# Altium schematic symbol library 2017-07-30_02-04-41.SchLib: 21 symbols
Pins are listed as number, name and electrical type; pins without a type are passive.

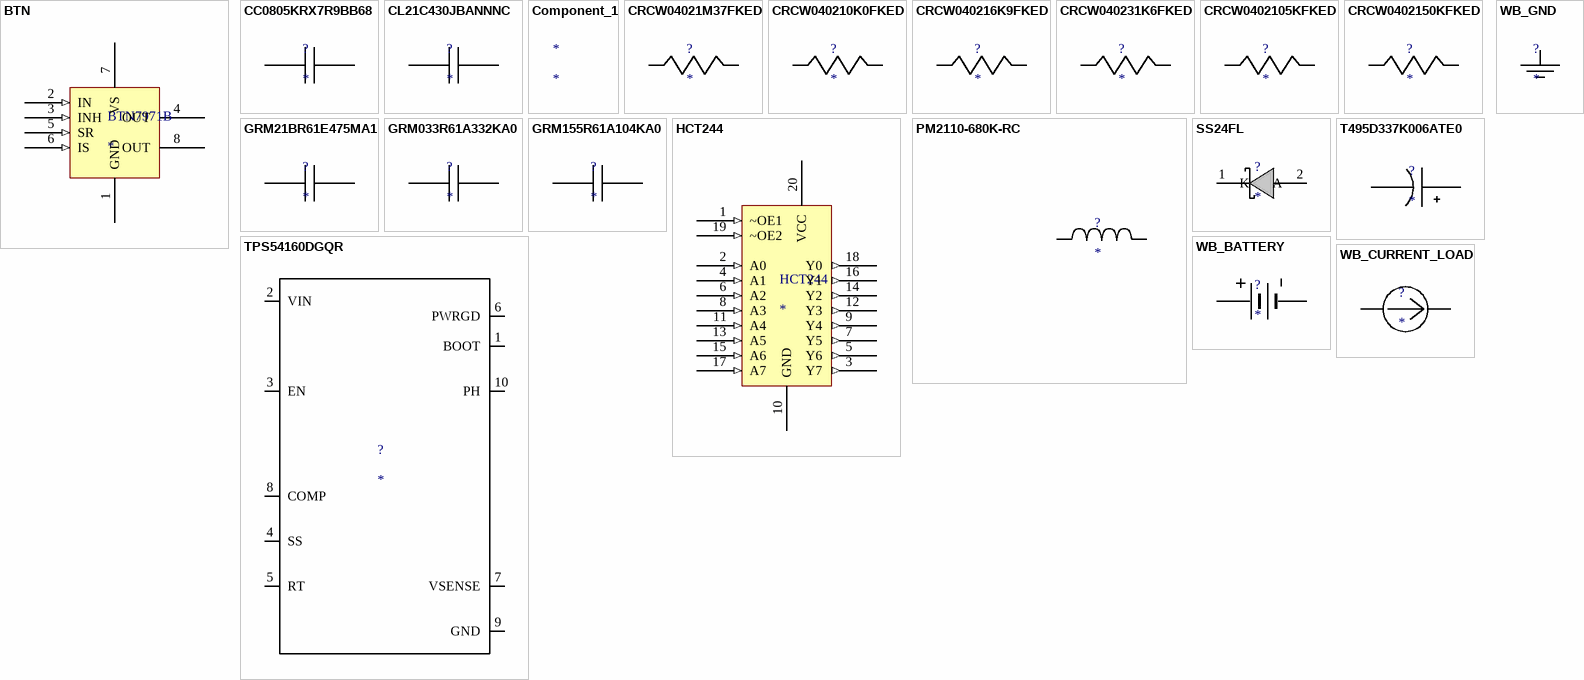
[diagram p0: symbols BTN to WB_GND]

## BTN
designator BTN7971B
footprint BTN7971B
pins: 1 GND (power), 2 IN (in), 3 INH (in), 4 OUT (oc), 5 SR (in), 6 IS (in), 7 VS (power), 8 OUT (oc)

## CC0805KRX7R9BB68
designator ?
Imported; Manufacturer_Part_Number: CC0805KRX7R9BB682; Vendor: Yageo America; Manufacturer_Name: Yageo America; RefDes: RefDes; TYPE: TYPE; Value: Value
footprint 0805
pins: 1, 2

## CL21C430JBANNNC
designator ?
Imported; Manufacturer_Part_Number: CL21C430JBANNNC; Vendor: Samsung Electro-Mechanics; Manufacturer_Name: Samsung Electro-Mechanics; RefDes: RefDes; TYPE: TYPE; Value: Value
footprint 0805
pins: 1, 2

## Component_1
designator *

## CRCW04021M37FKED
designator ?
Imported; Manufacturer_Part_Number: CRCW04021M37FKED; Vendor: Vishay-Dale; Manufacturer_Name: Vishay-Dale; RefDes: RefDes; TYPE: TYPE; Value: Value
footprint 0402
pins: 1, 2

## CRCW040210K0FKED
designator ?
Imported; Manufacturer_Part_Number: CRCW040210K0FKED; Vendor: Vishay-Dale; Manufacturer_Name: Vishay-Dale; RefDes: RefDes; TYPE: TYPE; Value: Value
footprint 0402
pins: 1, 2

## CRCW040216K9FKED
designator ?
Imported; Manufacturer_Part_Number: CRCW040216K9FKED; Vendor: Vishay-Dale; Manufacturer_Name: Vishay-Dale; RefDes: RefDes; TYPE: TYPE; Value: Value
footprint 0402
pins: 1, 2

## CRCW040231K6FKED
designator ?
Imported; Manufacturer_Part_Number: CRCW040231K6FKED; Vendor: Vishay-Dale; Manufacturer_Name: Vishay-Dale; RefDes: RefDes; TYPE: TYPE; Value: Value
footprint 0402
pins: 1, 2

## CRCW0402105KFKED
designator ?
Imported; Manufacturer_Part_Number: CRCW0402105KFKED; Vendor: Vishay-Dale; Manufacturer_Name: Vishay-Dale; RefDes: RefDes; TYPE: TYPE; Value: Value
footprint 0402
pins: 1, 2

## CRCW0402150KFKED
designator ?
Imported; Manufacturer_Part_Number: CRCW0402150KFKED; Vendor: Vishay-Dale; Manufacturer_Name: Vishay-Dale; RefDes: RefDes; TYPE: TYPE; Value: Value
footprint 0402
pins: 1, 2

## GRM21BR61E475MA1
designator ?
Imported; Manufacturer_Part_Number: GRM21BR61E475MA12L; Vendor: MuRata; Manufacturer_Name: MuRata; RefDes: RefDes; TYPE: TYPE; Value: Value
footprint 0805
pins: 1, 2

## GRM033R61A332KA0
designator ?
Imported; Manufacturer_Part_Number: GRM033R61A332KA01D; Vendor: MuRata; Manufacturer_Name: MuRata; RefDes: RefDes; TYPE: TYPE; Value: Value
footprint 0201
pins: 1, 2

## GRM155R61A104KA0
designator ?
Imported; Manufacturer_Part_Number: GRM155R61A104KA01D; Vendor: MuRata; Manufacturer_Name: MuRata; RefDes: RefDes; TYPE: TYPE; Value: Value
footprint 0402
pins: 1, 2

## HCT244
designator HCT244
footprint HCT244 (TSOP, 20-Leads, Body 6.50x4.40mm, Pitch 0.65mm, IPC Medium Density)
pins: 1 ~OE1 (in), 2 A0 (in), 3 Y7 (out), 4 A1 (in), 5 Y6 (out), 6 A2 (in), 7 Y5 (out), 8 A3 (in), 9 Y4 (out), 10 GND (power), 11 A4 (in), 12 Y3 (out), 13 A5 (in), 14 Y2 (out), 15 A6 (in), 16 Y1 (out), 17 A7 (in), 18 Y0 (out), 19 ~OE2 (in), 20 VCC (power)

## PM2110-680K-RC
designator ?
Imported; Manufacturer_Part_Number: PM2110-680K-RC; Vendor: Bourns; Manufacturer_Name: Bourns; RefDes: RefDes; TYPE: TYPE; Value: Value
footprint PM2110
pins: 1, 2

## SS24FL
designator ?
Imported; Manufacturer_Part_Number: SS24FL; Vendor: Fairchild Semiconductor; Manufacturer_Name: Fairchild Semiconductor; RefDes: RefDes; TYPE: TYPE; Value: Value
footprint SOD-123F
pins: 1 K, 2 A

## T495D337K006ATE0
designator ?
Imported; Manufacturer_Part_Number: T495D337K006ATE050; Vendor: Kemet; Manufacturer_Name: Kemet; RefDes: RefDes; TYPE: TYPE; Value: Value
footprint 7343-31
pins: 1 +, 2 -

## TPS54160DGQR
designator ?
Imported; Manufacturer_Part_Number: TPS54140DGQR; Vendor: Texas Instruments; Manufacturer_Name: Texas Instruments; RefDes: RefDes; TYPE: TYPE; Value: Value
footprint S-PDSO-G10
pins: 1 BOOT, 2 VIN, 3 EN, 4 SS, 5 RT, 6 PWRGD, 7 VSENSE, 8 COMP, 9 GND, 10 PH, 11 GND

## WB_BATTERY
designator ?
Imported; Manufacturer_Part_Number: WB_BATTERY; PowerPortType: POWER_GROUND; Value: Value; Manufacturer_Name: WB_BATTERY; RefDes: RefDes; TYPE: TYPE
pins: 1 +, 2 -

## WB_CURRENT_LOAD
designator ?
Imported; Manufacturer_Part_Number: WB_CURRENT_LOAD; PowerPortType: POWER_GROUND; Value: Value; Manufacturer_Name: WB_CURRENT_LOAD; RefDes: RefDes; TYPE: TYPE
pins: 1 +, 2 -

## WB_GND
designator ?
Imported; Manufacturer_Part_Number: WB_GND; PowerPortType: POWER_GROUND; Value: Value; Manufacturer_Name: WB_GND; RefDes: RefDes; TYPE: TYPE
pins: 1